# Altium footprint library HPM-06-02-T-S-RA.PcbLib: 1 footprints
Each footprint in its own frame and in the unit in brackets; x right, y up, seen from the top. Pads: shape width x height; smd on the part's side, far side on the other; paste and mask are expansions set on the pad; w line width, h text height; cw(c..) or ccw(c..) is an arc to the next point about the centre after c.
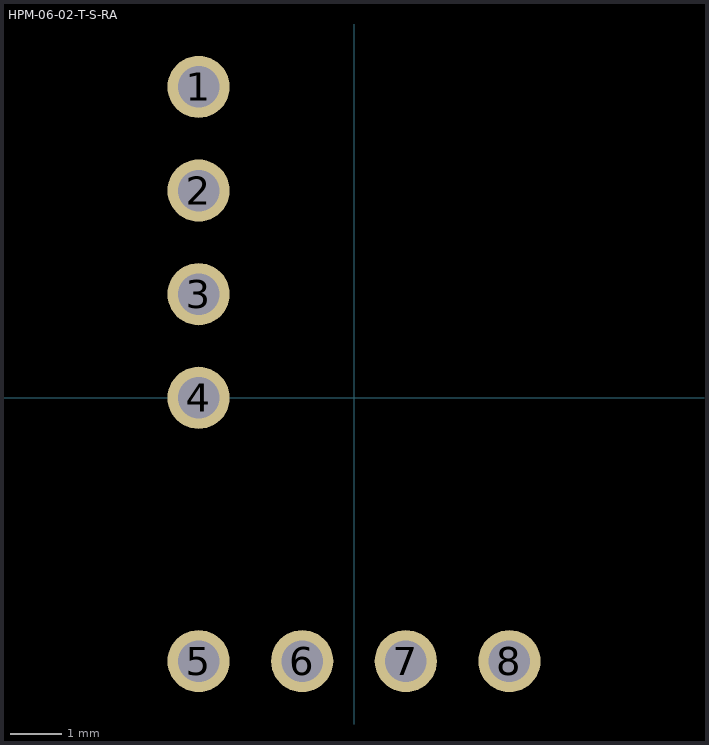
[diagram p0: the footprint, top view; thin cyan lines are the x and y axes]

## HPM-06-02-T-S-RA [mm]
pads (8):
  round 1.2 hole 0.8: 1(-3,6) 2(-3,4) 3(-3,2) 4(-3,0) 5(-3,-5.08) 6(-1,-5.08) 7(1,-5.08) 8(3,-5.08)